# Altium footprint library CAMM8C0.PcbLib: 1 footprints
Each footprint in its own frame and in the unit in brackets; x right, y up, seen from the top. Pads: shape width x height; smd on the part's side, far side on the other; paste and mask are expansions set on the pad; w line width, h text height; cw(c..) or ccw(c..) is an arc to the next point about the centre after c.
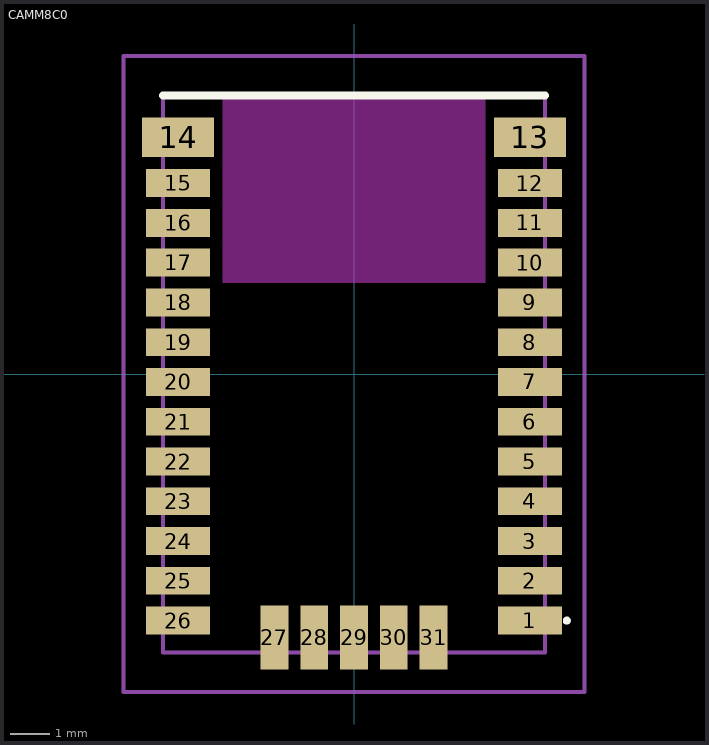
[diagram p0: the footprint, top view; thin cyan lines are the x and y axes]

## CAMM8C0 [mm]
pads (31):
  rect 1.6x0.7 smd: 1(4.425,-6.2) 2(4.425,-5.2) 3(4.425,-4.2) 4(4.425,-3.2) 5(4.425,-2.2) 6(4.425,-1.2) 7(4.425,-0.2) 8(4.425,0.8) 9(4.425,1.8) 10(4.425,2.8) 11(4.425,3.8) 12(4.425,4.8) 15(-4.425,4.8) 16(-4.425,3.8) 17(-4.425,2.8) 18(-4.425,1.8) 19(-4.425,0.8) 20(-4.425,-0.2) 21(-4.425,-1.2) 22(-4.425,-2.2) 23(-4.425,-3.2) 24(-4.425,-4.2) 25(-4.425,-5.2) 26(-4.425,-6.2)
  rect 1.8x1 smd: 13(4.425,5.95) 14(-4.425,5.95)
  rect 0.7x1.6 smd: 27(-2,-6.625) 28(-1,-6.625) 29(0,-6.625) 30(1,-6.625) 31(2,-6.625)
Top Overlay:
  lines w0.1: 5.3,-6.2 ccw(c5.35,-6.2) 5.4,-6.2 ccw(c5.35,-6.2) 5.3,-6.2
  lines w0.2: -4.8,7 4.8,7
Keep-Out Layer:
  rectangle: -3.302,2.286 3.302,6.985
Mechanical 15:
  lines w0.1: -4.8,-7 -4.8,7 4.8,7 4.8,-7 -4.8,-7
Mechanical 20:
  lines w0.1: -5.8,-8 -5.8,8 5.8,8 5.8,-8 -5.8,-8
3D body "CAM-M8.STEP": height 2.19, standoff 0.19, extent -4.826,-7 4.774,7